# Altium footprint library dimmer_slim.PcbLib: 16 footprints
Each footprint in its own frame and in the unit in brackets; x right, y up, seen from the top. Pads: shape width x height; smd on the part's side, far side on the other; paste and mask are expansions set on the pad; w line width, h text height; cw(c..) or ccw(c..) is an arc to the next point about the centre after c.
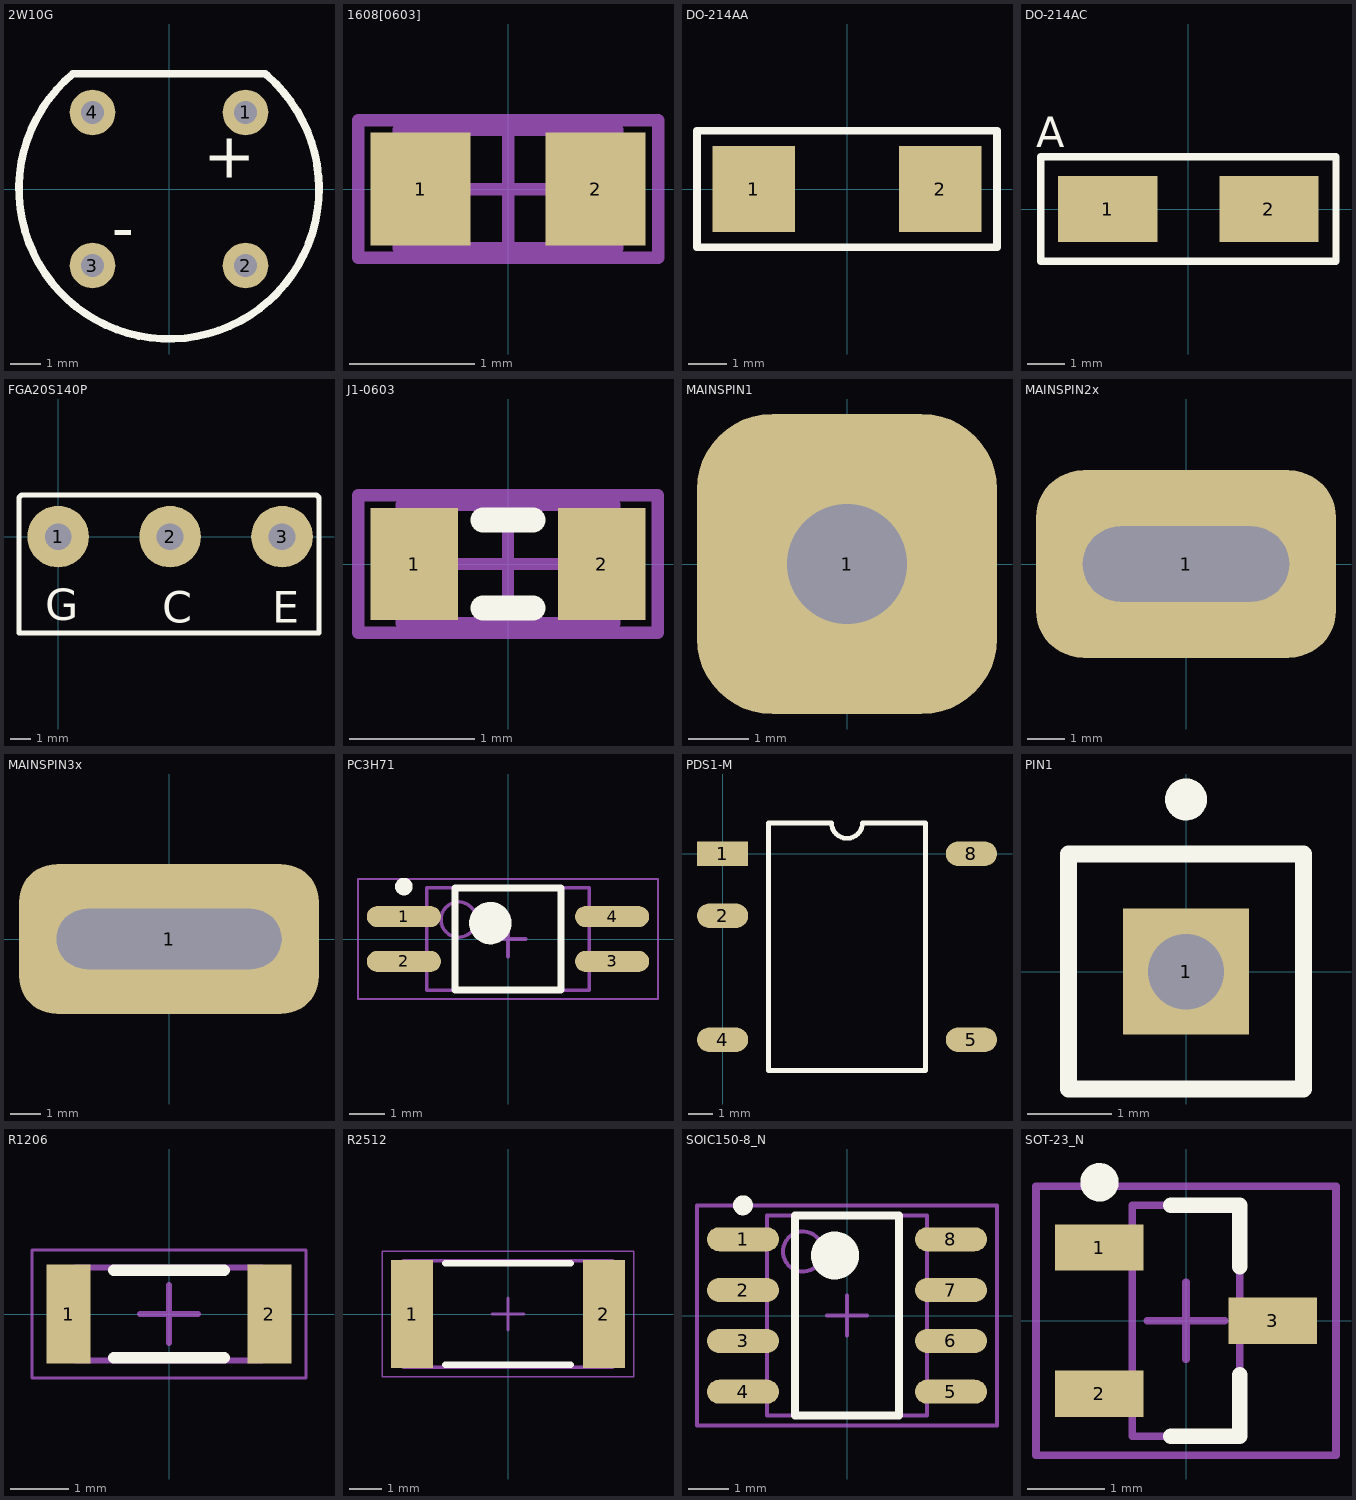
[diagram p0: the footprints below, top view; thin cyan lines are the x and y axes]

## 2W10G [mil]
pads (4):
  round 60 hole 30: 1(100.39,100.39) 2(100.39,-100.39) 3(-100.39,-100.39) 4(-100.39,100.39)
Top Overlay:
  lines w10: 126.4,151.22 -126.02,151.22 ccw(c0,0) 128.53,149.1
  text "+" at 45,15 h60
  text "-" at -75,-80 h60

## 1608[0603] [mm]
pads (2):
  rect 0.8x0.9 smd: 1(-0.7,0) 2(0.7,0)
Mechanical 13:
  lines w0.1: -0.875,-0.475 -0.875,0.475 0.875,0.475 0.875,-0.475 -0.875,-0.475
Mechanical 15:
  lines w0.1: -0.475,0 0.475,0 ; 0,-0.475 0,0.475 ; -1.2,-0.55 -1.2,0.55 1.2,0.55 1.2,-0.55 -1.2,-0.55
3D body: height 1.3, standoff 0, extent -0.875,-0.475 0.875,0.475

## DO-214AA [mm]
pads (2):
  rect 2.16x2.26 smd: 1(-2.45,0) 2(2.45,0)
Top Overlay:
  lines w0.2: -3.937,-1.524 3.937,-1.524 3.937,1.524 -3.937,1.524 -3.937,-1.524

## DO-214AC [mm]
pads (2):
  rect 2.65x1.75 smd: 1(-2.15,0) 2(2.15,0)
Top Overlay:
  lines w0.2: -3.937,-1.397 3.937,-1.397 3.937,1.397 -3.937,1.397 -3.937,-1.397
  text "A" at -4.064,1.651 h0.81

## FGA20S140P [mm]
pads (3):
  round 3 hole 1.3: 1(0,0) 2(5.45,0) 3(10.9,0)
Top Overlay:
  lines w0.254: -1.905,-4.699 -1.905,1.905 -1.778,2.032 12.573,2.032 12.7,1.905 12.7,-4.699 -1.905,-4.699
  text "G" at -0.635,-4.064 h1.52
  text "C" at 5.08,-4.191 h1.52
  text "E" at 10.414,-4.191 h1.52

## J1-0603 [mm]
pads (2):
  rect 0.7x0.9 smd: 1(-0.75,0) 2(0.75,0)
Top Overlay:
  lines w0.2: -0.2,-0.35 0.2,-0.35 ; -0.2,0.35 0.2,0.35
Mechanical 13:
  lines w0.1: -0.85,-0.475 -0.85,0.475 0.85,0.475 0.85,-0.475 -0.85,-0.475
Mechanical 15:
  lines w0.1: -0.475,0 0.475,0 ; 0,-0.475 0,0.475 ; -1.2,-0.55 -1.2,0.55 1.2,0.55 1.2,-0.55 -1.2,-0.55
3D body: height 0.9, standoff 0, extent -0.85,-0.475 0.85,0.475

## MAINSPIN1 [mm]
pads (1):
  rrect50% 5x5 hole 2: 1(0,0)

## MAINSPIN2x [mm]
pads (1):
  rrect50% 8x5 hole 2 slot 5.5 at 0 deg: 1(0,0)

## MAINSPIN3x [mm]
pads (1):
  rrect50% 10x5 hole 2 slot 7.5 at 0 deg: 1(0,0)

## PC3H71 [mm]
pads (4):
  oval 2.1x0.6 smd: 1(-2.95,0.635) 2(-2.95,-0.635) 3(2.95,-0.635) 4(2.95,0.635)
Top Overlay:
  circle w0.25: c-2.95,1.485 r0.125
  circle w0.6: c-0.5,0.45 r0.3
  lines w0.2: -1.5,-1.45 -1.5,1.45 1.5,1.45 1.5,-1.45 -1.5,-1.45
Mechanical 13:
  circle w0.1: c-1.4,0.55 r0.5
  lines w0.1: -2.3,-1.45 -2.3,1.45 2.3,1.45 2.3,-1.45 -2.3,-1.45
Mechanical 15:
  lines w0.05: -4.25,-1.7 -4.25,1.7 4.25,1.7 4.25,-1.7 -4.25,-1.7
  lines w0.1: -0.5,0 0.5,0 ; 0,-0.5 0,0.5
3D body: height 2.2, standoff 0.1, extent -2.3,-1.45 2.3,1.45

## PDS1-M [mm]
pads (5):
  rect 2.1x1 smd: 1(0,0)
  oval 2.1x1 smd: 2(0,-2.54) 4(0,-7.62) 5(10.2,-7.62) 8(10.2,0)
Top Overlay:
  lines w0.2: 1.885,-8.89 8.315,-8.89 8.315,1.27 5.735,1.27 cw(c5.1,1.27) 4.465,1.27 1.885,1.27 1.885,-8.89

## PIN1 [mm]
pads (1):
  rect 1.5x1.5 hole 0.9: 1(0,0)
Top Overlay:
  circle w0.25: c0,2.05 r0.125
  lines w0.2: -1.4,-1.4 -1.4,1.4 1.4,1.4 1.4,-1.4 -1.4,-1.4

## R1206 [mm]
pads (2):
  rect 0.75x1.7 smd: 1(-1.725,0) 2(1.725,0)
Top Overlay:
  lines w0.2: -0.95,-0.75 0.95,-0.75 ; -0.95,0.75 0.95,0.75
Mechanical 13:
  lines w0.1: -1.6,-0.8 -1.6,0.8 1.6,0.8 1.6,-0.8 -1.6,-0.8
Mechanical 15:
  lines w0.05: -2.35,-1.1 -2.35,1.1 2.35,1.1 2.35,-1.1 -2.35,-1.1
  lines w0.1: -0.5,0 0.5,0 ; 0,-0.5 0,0.5
3D body: height 0.6, standoff 0, extent -1.4,-0.8 1.4,0.8
3D body: height 0.6, standoff 0, extent -1.6,-0.8 -1.4,0.8
3D body: height 0.6, standoff 0, extent 1.4,-0.8 1.6,0.8

## R2512 [mm]
pads (2):
  rect 1.3x3.35 smd: 1(-2.975,0) 2(2.975,0)
Top Overlay:
  lines w0.2: -1.95,-1.575 1.95,-1.575 ; -1.95,1.575 1.95,1.575
Mechanical 13:
  lines w0.1: -3.25,-1.65 -3.25,1.65 3.25,1.65 3.25,-1.65 -3.25,-1.65
Mechanical 15:
  lines w0.05: -3.9,-1.95 -3.9,1.95 3.9,1.95 3.9,-1.95 -3.9,-1.95
  lines w0.1: -0.5,0 0.5,0 ; 0,-0.5 0,0.5
3D body: height 0.6, standoff 0, extent -2.65,-1.65 2.65,1.65
3D body: height 0.6, standoff 0, extent -3.25,-1.65 -2.65,1.65
3D body: height 0.6, standoff 0, extent 2.65,-1.65 3.25,1.65

## SOIC150-8_N [mm]
pads (8):
  oval 1.8x0.6 smd: 1(-2.6,1.905) 2(-2.6,0.635) 3(-2.6,-0.635) 4(-2.6,-1.905) 5(2.6,-1.905) 6(2.6,-0.635) 7(2.6,0.635) 8(2.6,1.905)
Top Overlay:
  circle w0.25: c-2.6,2.755 r0.125
  circle w0.6: c-0.3,1.5 r0.3
  lines w0.2: -1.3,-2.5 -1.3,2.5 1.3,2.5 1.3,-2.5 -1.3,-2.5
Mechanical 13:
  circle w0.1: c-1.1,1.6 r0.5
  lines w0.1: -2,-2.5 -2,2.5 2,2.5 2,-2.5 -2,-2.5
Mechanical 15:
  lines w0.1: -0.5,0 0.5,0 ; 0,-0.5 0,0.5 ; -3.75,-2.75 -3.75,2.75 3.75,2.75 3.75,-2.75 -3.75,-2.75
3D body: height 1.76, standoff 0, extent -2,-2.5 2,2.5

## SOT-23_N [mm]
pads (3):
  rect 1.15x0.6 smd: 1(-1.125,0.95) 2(-1.125,-0.95) 3(1.125,0)
Top Overlay:
  circle w0.25: c-1.125,1.8 r0.125
  lines w0.2: -0.2,-1.5 0.7,-1.5 0.7,-0.7 ; -0.2,1.5 0.7,1.5 0.7,0.7
Mechanical 13:
  lines w0.1: -0.7,-1.5 -0.7,1.5 0.7,1.5 0.7,-1.5 -0.7,-1.5
Mechanical 15:
  lines w0.1: -0.5,0 0.5,0 ; 0,-0.5 0,0.5 ; -1.95,-1.75 -1.95,1.75 1.95,1.75 1.95,-1.75 -1.95,-1.75
3D body: height 1.1, standoff 0, extent -0.7,-1.5 0.7,1.5